# Altium schematic symbol library ind12.5X12.5.SchLib: 1 symbol
Pins are listed as number, name and electrical type; pins without a type are passive.

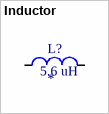
[diagram p0: symbol Inductor]

## Inductor
designator L?  value 5.6 uH
B82477R4562M100, SMD, 5.6uH, 7.25A, Isat=12.75A 11.5mOhm 12.5x12.5x8.5mm
footprint 12.5X12.5 inductor
pins: 1, 2